# Altium footprint library OpenECADLib-fp-0003.PcbLib: 1 footprints
Each footprint in its own frame and in the unit in brackets; x right, y up, seen from the top. Pads: shape width x height; smd on the part's side, far side on the other; paste and mask are expansions set on the pad; w line width, h text height; cw(c..) or ccw(c..) is an arc to the next point about the centre after c.
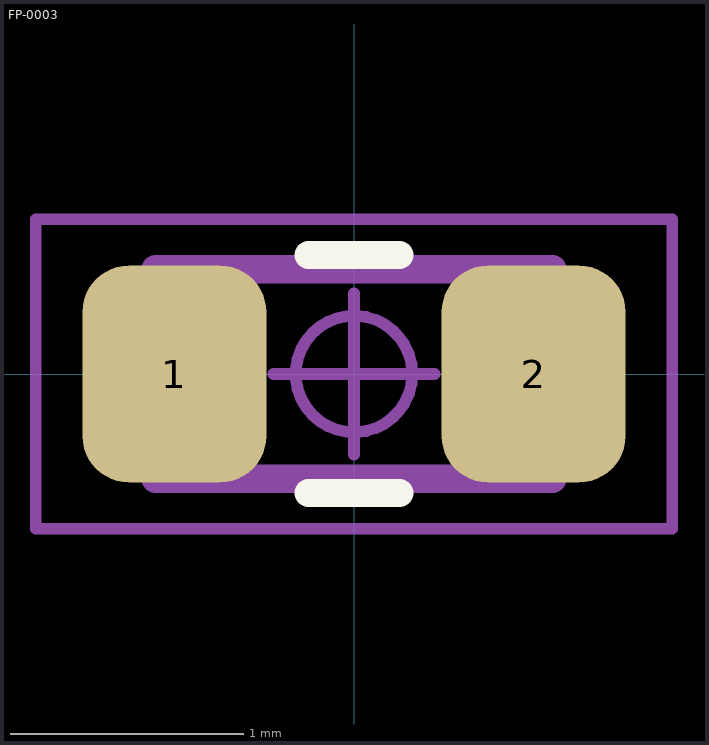
[diagram p0: the footprint, top view; thin cyan lines are the x and y axes]

## FP-0003 [mm] "Resistor, Chip; 1.60 mm L X 0.80 mm W X 0.55 mm H body"
height 0.55
pads (2):
  rrect50% 0.788x0.929 smd: 1(-0.77,0) 2(0.77,0)
Top Overlay:
  lines w0.12: -0.196,-0.51 0.196,-0.51 ; -0.196,0.51 0.196,0.51
Top Assembly:
  lines w0.12: -0.85,-0.45 -0.85,0.45 0.85,0.45 0.85,-0.45 -0.85,-0.45
Top Courtyard:
  circle w0.05: c0,0 r0.25
  lines w0.05: -0.345,0 0.345,0 ; 0,-0.345 0,0.345 ; -1.364,-0.664 -1.364,0.664 1.364,0.664 1.364,-0.664 -1.364,-0.664
Top Component Outline (Mech15):
  lines w0.025: -0.8,-0.4 -0.5,-0.4 -0.5,0.4 -0.8,0.4 ; -0.8,-0.4 -0.8,0.4 ; -0.8,-0.4 -0.8,0.4 ; -0.8,-0.4 0.8,-0.4 ; -0.8,0.4 0.8,0.4 ; 0.8,-0.4 0.8,0.4 ; 0.8,-0.4 0.5,-0.4 0.5,0.4 0.8,0.4 ; 0.8,-0.4 0.8,0.4
Top Designator:
  text ".Designator" at -2.476,-0.209 h1
3D body "3d-0003.STEP": height 0.45, standoff 0, extent -0.85,-0.393 0.75,0.407